# Altium schematic symbol library ESP32S.SchLib: 1 symbol
Pins are listed as number, name and electrical type; pins without a type are passive.

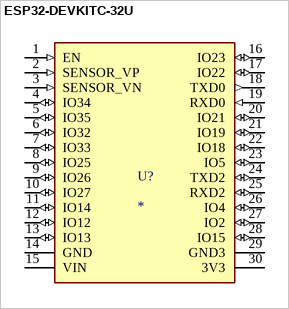
[diagram p0: symbol ESP32-DEVKITC-32U]

## ESP32-DEVKITC-32U
designator U?
ESP32-WROOM-32UE series Transceiver; 802.11 b/g/n (Wi-Fi, WiFi, WLAN), BluetoothÂ® Smart Ready 4.x Dual Mode Evaluation Board; MF: Espressif Systems; MP: ESP32-DEVKITC-32U; SnapEDA_Link: https://www.snapeda.com/parts/ESP32-DEVKITC-32U/Espressif+Systems/view-part/?ref=snap; Availability: In Stock; Purchase-URL: https://pricing.snapeda.com/search/part/ESP32-DEVKITC-32U/?ref=eda; Check_prices: https://www.snapeda.com/parts/ESP32-DEVKITC-32U/Espressif+Systems/view-part/?ref=eda; Value: *; Package: None; Price: None
footprint ESP32S
pins: 1 EN (in), 2 SENSOR_VP (in), 3 SENSOR_VN (in), 4 IO34 (io), 5 IO35 (io), 6 IO32 (io), 7 IO33 (io), 8 IO25 (io), 9 IO26 (io), 10 IO27 (io), 11 IO14 (io), 12 IO12 (io), 13 IO13 (io), 14 GND (power), 15 VIN (power), 16 IO23 (io), 17 IO22 (io), 18 TXD0 (out), 19 RXD0 (in), 20 IO21 (io), 21 IO19 (io), 22 IO18 (io), 23 IO5 (io), 24 TXD2 (io), 25 RXD2 (io), 26 IO4 (io), 27 IO2 (io), 28 IO15 (io), 29 GND3 (power), 30 3V3 (power)